# Altium schematic symbol library MCP23017-SOIC.SchLib: 1 symbol
Pins are listed as number, name and electrical type; pins without a type are passive.

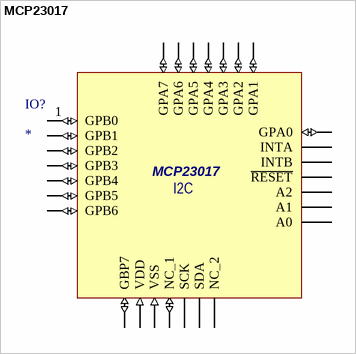
[diagram p0: symbol MCP23017]

## MCP23017
designator IO?
16-Bit I/O Expander with Serial Interface; ComponentLink1Description: link; ComponentLink1URL: https://ww1.microchip.com/downloads/en/devicedoc/20001952c.pdf
footprint MCP23017-SOIC
pins: 1 GPB0 (io), 2 GPB1 (io), 3 GPB2 (io), 4 GPB3 (io), 5 GPB4 (io), 6 GPB5 (io), 7 GPB6 (io), 8 GBP7 (io), 9 VDD (in), 10 VSS (in), 11 NC_1 (io), 12 SCK, 13 SDA, 14 NC_2 (hiz), 15 A0, 16 A1, 17 A2, 18 ~{RESET}, 19 INTB, 20 INTA, 21 GPA0 (io), 22 GPA1 (io), 23 GPA2 (io), 24 GPA3 (io), 25 GPA4 (io), 26 GPA5 (io), 27 GPA6 (io), 28 GPA7 (io)
text: I2C